# EAGLE library part TL7705 (library wheat)
TL705 VOLTAEG SENSOR
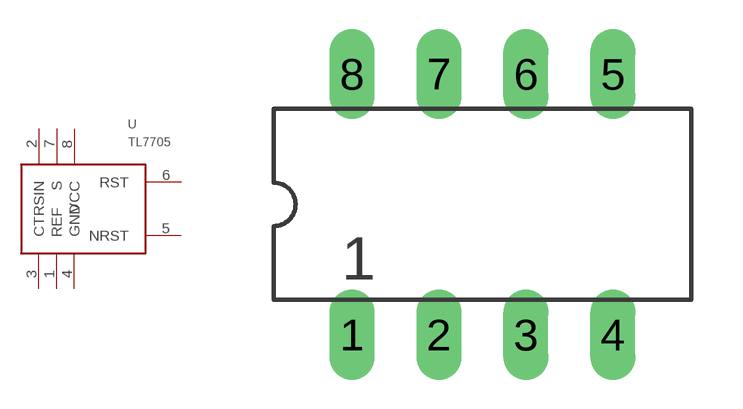
[diagram p43: symbol with the pads of DIP8; footprint DIP8]

Designator prefix U

## TL7705  [DIP8]
1  REF
2  RSIN
3  CT
4  GND
5  NRST
6  RST
7  S
8  VCC

## Footprint DIP8 (pad centres in mm)
DIP8 .300 centers
drill 0.813 long: 1 0,0; 2 2.54,0; 3 5.08,0; 4 7.62,0; 5 7.62,7.62; 6 5.08,7.62; 7 2.54,7.62; 8 0,7.62